# Altium footprint library MPLDE0320B05.PcbLib: 1 footprints
Each footprint in its own frame and in the unit in brackets; x right, y up, seen from the top. Pads: shape width x height; smd on the part's side, far side on the other; paste and mask are expansions set on the pad; w line width, h text height; cw(c..) or ccw(c..) is an arc to the next point about the centre after c.
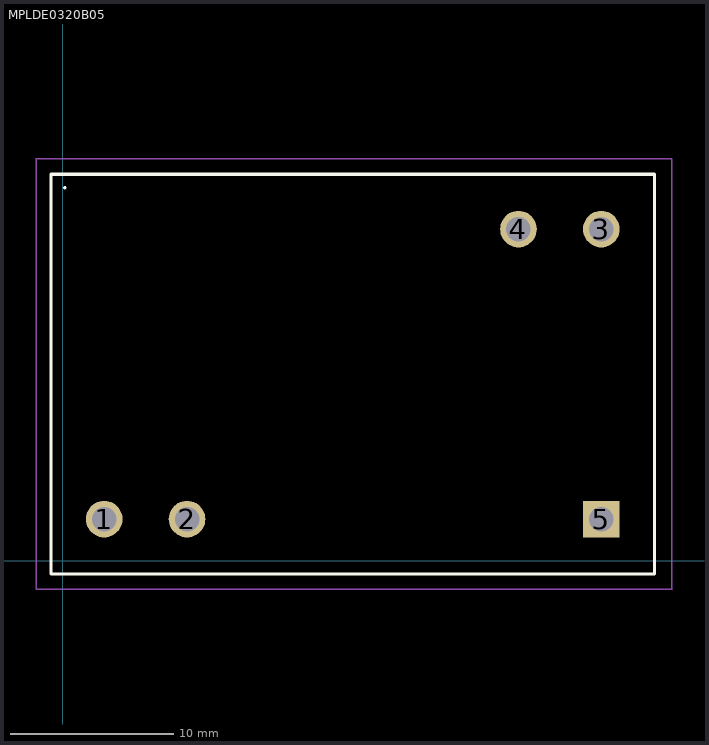
[diagram p0: the footprint, top view; thin cyan lines are the x and y axes]

## MPLDE0320B05 [mm]
pads (5):
  round 2.25 hole 1.5: 1(2.54,2.54) 2(7.62,2.54) 3(33.02,20.32) 4(27.94,20.32)
  rect 2.25x2.25 hole 1.5: 5(33.02,2.54)
Top Overlay:
  lines w0.1: 0.127,22.812 ccw(c0.127,22.862) 0.127,22.912 ccw(c0.127,22.862) 0.127,22.812
  lines w0.2: -0.72,-0.82 -0.72,23.68 36.28,23.68 36.28,-0.82 -0.72,-0.82
Mechanical 15:
  lines w0.1: -0.72,-0.82 -0.72,23.68 36.28,23.68 36.28,-0.82 -0.72,-0.82
Mechanical 20:
  lines w0.1: -1.651,24.638 37.349,24.638 37.349,-1.762 ; -1.635,24.638 -1.635,-1.762 37.365,-1.762
3D body: height 18, standoff 0, extent -0.72,-0.82 36.28,23.68